# Altium footprint library RASM722PTR13X.PcbLib: 1 footprints
Each footprint in its own frame and in the unit in brackets; x right, y up, seen from the top. Pads: shape width x height; smd on the part's side, far side on the other; paste and mask are expansions set on the pad; w line width, h text height; cw(c..) or ccw(c..) is an arc to the next point about the centre after c.
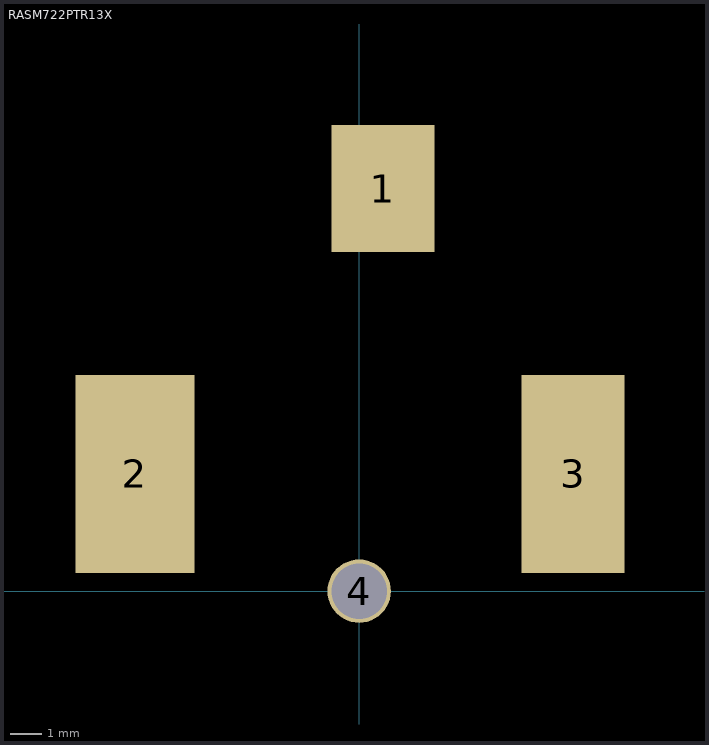
[diagram p0: the footprint, top view; thin cyan lines are the x and y axes]

## RASM722PTR13X [mil]
pads (4):
  rect 130x160 smd: 1(30,508)
  rect 150x250 smd: 2(-283,148)
  rect 130x250 smd: 3(270,148)
  round 80 hole 70: 4(0,0)